# Altium footprint library Passive.PcbLib: 49 footprints (part 2 of 4)
Each footprint in its own frame and in the unit in brackets; x right, y up, seen from the top. Pads: shape width x height; smd on the part's side, far side on the other; paste and mask are expansions set on the pad; w line width, h text height; cw(c..) or ccw(c..) is an arc to the next point about the centre after c.
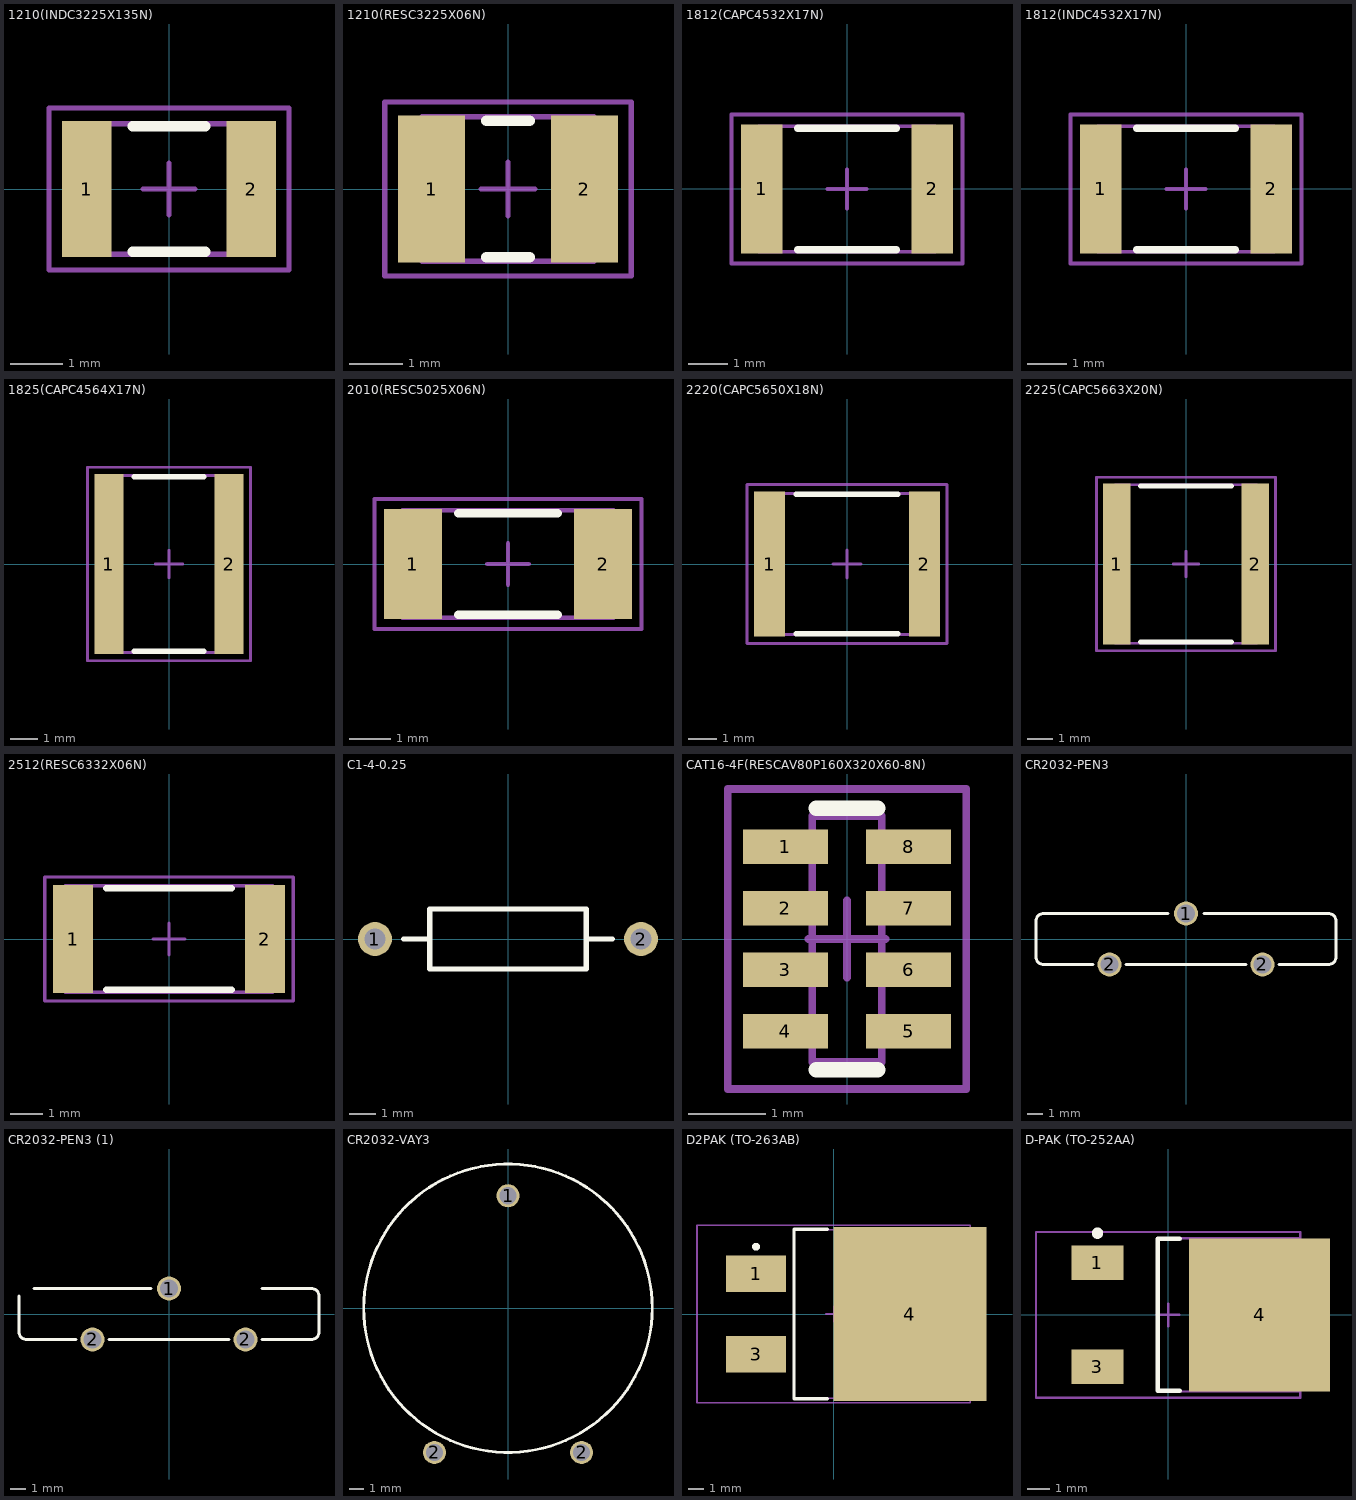
[diagram p1: the footprints below, top view; thin cyan lines are the x and y axes]

## 1210(INDC3225X135N) [mm] "Chip Inductor, 2-Leads, Body 3,2x2,5mm, IPC Medium Density"
height 1.7
pads (2):
  rect 0.95x2.6 smd: 1(-1.575,0) 2(1.575,0)
Top Overlay:
  lines w0.2: -0.7,-1.2 0.7,-1.2 ; -0.7,1.2 0.7,1.2
Mechanical 13:
  lines w0.1: -1.6,-1.25 -1.6,1.25 1.6,1.25 1.6,-1.25 -1.6,-1.25
Mechanical 15:
  lines w0.1: -0.5,0 0.5,0 ; 0,-0.5 0,0.5 ; -2.3,-1.55 -2.3,1.55 2.3,1.55 2.3,-1.55 -2.3,-1.55
3D body "User Library-Chip Inductor.step": height 1.35, standoff 0, extent -1.6,-1.2 1.6,1.3

## 1210(RESC3225X06N) [mm] "Chip Resistor, 2-Leads, Body 3,1x2,6mm, IPC Medium Density"
height 0.6
pads (2):
  rect 1.25x2.75 smd: 1(-1.425,0) 2(1.425,0)
Top Overlay:
  lines w0.2: -0.4,-1.275 0.4,-1.275 ; -0.4,1.275 0.4,1.275
Mechanical 13:
  lines w0.1: -1.6,-1.35 -1.6,1.35 1.6,1.35 1.6,-1.35 -1.6,-1.35
Mechanical 15:
  lines w0.1: -0.5,0 0.5,0 ; 0,-0.5 0,0.5 ; -2.3,-1.625 -2.3,1.625 2.3,1.625 2.3,-1.625 -2.3,-1.625
3D body "User Library-Chip Resistor2.step": height 0.6, standoff 0, extent -1.65,-1.25 1.55,1.25

## 1812(CAPC4532X17N) [mm] "Chip Capacitor, 2-Leads, Body 4,5x3,2mm, IPC Medium Density"
height 1.7
pads (2):
  rect 1.05x3.3 smd: 1(-2.175,0) 2(2.175,0)
Top Overlay:
  lines w0.2: -1.25,-1.55 1.25,-1.55 ; -1.25,1.55 1.25,1.55
Mechanical 13:
  lines w0.1: -2.25,-1.6 2.25,-1.6 2.25,1.6 -2.25,1.6 -2.25,-1.6
Mechanical 15:
  lines w0.1: -0.5,0 0.5,0 ; 0,-0.5 0,0.5 ; -2.95,-1.9 2.95,-1.9 2.95,1.9 -2.95,1.9 -2.95,-1.9
3D body "User Library-Chip Capacitor2.step": height 1.27, standoff 0, extent -2.25,-1.6 2.25,1.6

## 1812(INDC4532X17N) [mm] "Chip Inductor, 2-Leads, Body 4,5x3,2mm, IPC Medium Density"
height 1.7
pads (2):
  rect 1.05x3.3 smd: 1(-2.175,0) 2(2.175,0)
Top Overlay:
  lines w0.2: -1.25,-1.55 1.25,-1.55 ; -1.25,1.55 1.25,1.55
Mechanical 13:
  lines w0.1: -2.25,-1.6 2.25,-1.6 2.25,1.6 -2.25,1.6 -2.25,-1.6
Mechanical 15:
  lines w0.1: -0.5,0 0.5,0 ; 0,-0.5 0,0.5 ; -2.95,-1.9 2.95,-1.9 2.95,1.9 -2.95,1.9 -2.95,-1.9
3D body "User Library-Chip Inductor.step": height 1.75, standoff 0, extent -2.25,-1.6 2.25,1.6

## 1825(CAPC4564X17N) [mm] "Chip Capacitor, 2-Leads, Body 4,5x6,4mm, IPC Medium Density"
height 1.7
pads (2):
  rect 1.05x6.5 smd: 1(-2.175,0) 2(2.175,0)
Top Overlay:
  lines w0.2: -1.25,-3.15 1.25,-3.15 ; -1.25,3.15 1.25,3.15
Mechanical 13:
  lines w0.1: -2.25,-3.2 -2.25,3.2 2.25,3.2 2.25,-3.2 -2.25,-3.2
Mechanical 15:
  lines w0.1: -0.5,0 0.5,0 ; 0,-0.5 0,0.5 ; -2.95,-3.5 -2.95,3.5 2.95,3.5 2.95,-3.5 -2.95,-3.5
3D body "User Library-Chip Capacitor2.step": height 1.6, standoff 0, extent -2.25,-3.2 2.25,3.2

## 2010(RESC5025X06N) [mm] "Chip Resistor, 2-Leads, Body 5,0x2,5mm, IPC Medium Density"
height 0.6
pads (2):
  rect 1.4x2.65 smd: 1(-2.3,0) 2(2.3,0)
Top Overlay:
  lines w0.2: -1.2,-1.225 1.2,-1.225 ; -1.2,1.225 1.2,1.225
Mechanical 13:
  lines w0.1: -2.55,-1.3 -2.55,1.3 2.55,1.3 2.55,-1.3 -2.55,-1.3
Mechanical 15:
  lines w0.1: -0.5,0 0.5,0 ; 0,-0.5 0,0.5 ; -3.225,-1.575 -3.225,1.575 3.225,1.575 3.225,-1.575 -3.225,-1.575
3D body "User Library-Chip Resistor2.step": height 0.65, standoff 0, extent -2.5,-1.25 2.5,1.25

## 2220(CAPC5650X18N) [mm] "Chip Capacitor, 2-Leads, Body 5,6x5,0mm, IPC Medium Density"
height 1.8
pads (2):
  rect 1.1x5.15 smd: 1(-2.75,0) 2(2.75,0)
Top Overlay:
  lines w0.2: -1.8,-2.475 1.8,-2.475 ; -1.8,2.475 1.8,2.475
Mechanical 13:
  lines w0.1: -2.8,-2.5 -2.8,2.5 2.8,2.5 2.8,-2.5 -2.8,-2.5
Mechanical 15:
  lines w0.1: -0.5,0 0.5,0 ; 0,-0.5 0,0.5 ; -3.55,-2.825 -3.55,2.825 3.55,2.825 3.55,-2.825 -3.55,-2.825
3D body "User Library-Chip Capacitor2.step": height 1.65, standoff 0, extent -2.8,-2.5 2.8,2.5

## 2225(CAPC5663X20N) [mm] "Chip Capacitor, 2-Leads, Body 5,6x6,3mm, IPC Medium Density"
height 2
pads (2):
  rect 1.1x6.4 smd: 1(-2.75,0) 2(2.75,0)
Top Overlay:
  lines w0.2: -1.8,-3.1 1.8,-3.1 ; -1.8,3.1 1.8,3.1
Mechanical 13:
  lines w0.1: -2.8,-3.15 2.8,-3.15 2.8,3.15 -2.8,3.15 -2.8,-3.15
Mechanical 15:
  lines w0.1: -0.5,0 0.5,0 ; 0,-0.5 0,0.5 ; -3.55,-3.45 3.55,-3.45 3.55,3.45 -3.55,3.45 -3.55,-3.45
3D body "User Library-Chip Capacitor2.step": height 2, standoff 0, extent -2.8,-3.25 2.8,3.15

## 2512(RESC6332X06N) [mm] "Chip Resistor, 2-Leads, Body 6,3x3,2mm, IPC Medium Density"
height 0.6
pads (2):
  rect 1.25x3.35 smd: 1(-2.975,0) 2(2.975,0)
Top Overlay:
  lines w0.2: -1.95,-1.575 1.95,-1.575 ; -1.95,1.575 1.95,1.575
Mechanical 13:
  lines w0.1: -3.225,-1.65 3.225,-1.65 3.225,1.65 -3.225,1.65 -3.225,-1.65
Mechanical 15:
  lines w0.1: -0.5,0 0.5,0 ; 0,-0.5 0,0.5 ; -3.85,-1.925 3.85,-1.925 3.85,1.925 -3.85,1.925 -3.85,-1.925
3D body "User Library-Chip Resistor2.step": height 0.65, standoff 0, extent -3.15,-1.6 3.15,1.6

## C1-4-0.25 [mm]
pads (2):
  round 1.3 hole 0.8: 1(-5.1,0) 2(5.1,0)
Top Overlay:
  lines w0.2: -4,0 -3,0 ; 3,0 4,0 ; -3,-1.15 3,-1.15 3,1.15 -3,1.15 -3,-1.15
3D body "User Library-RESISTOR, 0_25 W, 0_4 IN LEAD PITCH.step": height 2.93, standoff -2.54, extent -5.385,-1.1 5.385,1.211

## CAT16-4F(RESCAV80P160X320X60-8N) [mm] "SOIC, 8-Leads, Body 3,4x0,8mm (max), Pitch 1,27mm, IPC Medium Density"
height 0.6
pads (8):
  rect 1.1x0.45 smd: 1(-0.8,1.2) 2(-0.8,0.4) 3(-0.8,-0.4) 4(-0.8,-1.2) 5(0.8,-1.2) 6(0.8,-0.4) 7(0.8,0.4) 8(0.8,1.2)
Top Overlay:
  lines w0.2: -0.4,-1.7 0.4,-1.7 ; -0.4,1.7 0.4,1.7
Mechanical 13:
  lines w0.1: -0.45,-1.6 -0.45,1.6 0.45,1.6 0.45,-1.6 -0.45,-1.6
Mechanical 15:
  lines w0.1: -0.5,0 0.5,0 ; 0,-0.5 0,0.5 ; -1.55,-1.95 -1.55,1.95 1.55,1.95 1.55,-1.95 -1.55,-1.95
3D body "User Library-Array-1206-4Way-Var1.STEP": height 0.5, standoff 0, extent -0.825,-1.6 0.775,1.6

## CR2032-PEN3 [mm]
pads (3):
  round 1.6 hole 1.2: 1(0,1.7) 2(-5.1,-1.7) 2(5.1,-1.7)
Top Overlay:
  lines w0.2: -6.2,-1.7 -9.5,-1.7 cw(c-9.5,-1.2) -10,-1.2 -10,1.2 cw(c-9.5,1.2) -9.5,1.7 -1.2,1.7 ; -4,-1.7 4,-1.7 ; 1.2,1.7 9.5,1.7 cw(c9.5,1.2) 10,1.2 10,-1.2 cw(c9.5,-1.2) 9.5,-1.7 6.2,-1.7
3D body "User Library-cr2032.step": height 22.01, standoff -3, extent -10.008,-1.9 10.008,1.908

## CR2032-PEN3 (1) [mm]
pads (3):
  round 1.6 hole 1.2: 1(0,1.7) 2(-5.1,-1.7) 2(5.1,-1.7)
Top Overlay:
  lines w0.2: -10,1.2 -10,-1.2 ccw(c-9.5,-1.2) -9.5,-1.7 -6.2,-1.7 ; -9,1.7 -1.2,1.7 ; -4,-1.7 4,-1.7 ; 6.2,-1.7 9.5,-1.7 ccw(c9.5,-1.2) 10,-1.2 10,1.2 ccw(c9.5,1.2) 9.5,1.7 6.2,1.7
3D body "User Library-cr2032.step": height 22.01, standoff -3, extent -10.008,-1.9 10.008,1.908

## CR2032-VAY3 [mm]
pads (3):
  round 1.6 hole 1.2: 1(0,7.8) 2(-5.1,-10) 2(5.1,-10)
Top Overlay:
  circle w0.2: c0,0 r10
3D body "SW3dPS-cr2032 pcb, lithium battery-1.STEP": height 7.25, standoff -3.97, extent -10.025,-10.1 9.975,10.149

## D2PAK (TO-263AB) [mm]
height 4.83
pads (3):
  rect 3.81x2.32 smd: 1(-4.895,2.54) 3(-4.895,-2.54)
  rect 9.65x11 smd: 4(4.825,0)
Top Overlay:
  circle w0.25: c-4.895,4.25 r0.125
  lines w0.2: -0.4,-5.35 -2.5,-5.35 -2.5,5.35 -0.4,5.35
Mechanical 13:
  lines w0.1: -2.5,-5.325 -2.5,5.325 7.15,5.325 7.15,-5.325 -2.5,-5.325
Mechanical 15:
  lines w0.1: -0.5,0 0.5,0 ; 0,-0.5 0,0.5 ; -8.625,-5.6 -8.625,5.6 8.625,5.6 8.625,-5.6 -8.625,-5.6
3D body "D2Pak (TO-263AB).STEP": height 4.9, standoff 0, extent -6.175,-5.3 9.175,5.2

## D-PAK (TO-252AA) [mm]
height 2.39
pads (3):
  rect 2.28x1.524 smd: 1(-3.115,2.29) 3(-3.115,-2.29)
  rect 6.23x6.74 smd: 4(4.03,0)
Top Overlay:
  circle w0.25: c-3.115,3.602 r0.125
  lines w0.2: 0.515,-3.35 -0.45,-3.35 -0.45,3.35 0.515,3.35
Mechanical 13:
  lines w0.1: -0.45,-3.375 -0.45,3.375 5.77,3.375 5.77,-3.375 -0.45,-3.375
Mechanical 15:
  lines w0.1: -0.5,0 0.5,0 ; 0,-0.5 0,0.5 ; -5.825,-3.65 -5.825,3.65 5.825,3.65 5.825,-3.65 -5.825,-3.65
3D body "D-Pak (TO-252AA).STEP": height 2.43, standoff 0, extent -3.17,-3.2 6.97,3.3